# Altium schematic symbol library QFP.SchLib: 1 symbol
Pins are listed as number, name and electrical type; pins without a type are passive.

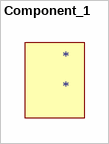
[diagram p0: symbol Component_1]

## Component_1
designator *
footprint LQFP32T19.7 (32 5 x 5mm 0.5mm (19.7mil))
footprint LQFP32T30 (32 7 x 7mm 0.8mm (31.5mil))
footprint LQFP44T30 (44 10 x 10mm 0.8mm (31.5mil))
footprint LQFP48T19.7 (48 7 x 7mm 0.5mm (19.7mil))
footprint LQFP52T25 (52 10 x 10mm 0.65mm (25.6mil))